# EAGLE library part LTC3105 (library James_custom)
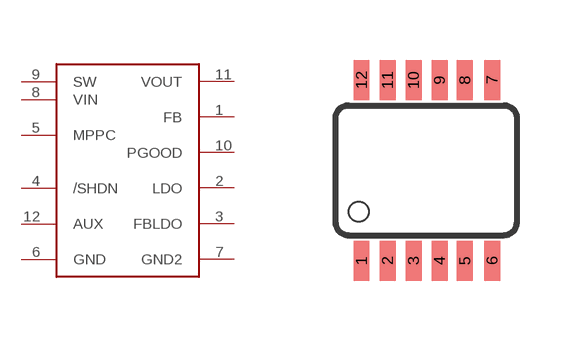
[diagram p10: symbol with the pads of MSOP12; footprint MSOP12]

Designator prefix -

## LTC3105  [MSOP12]
1  FB
2  LDO
3  FBLDO
4  /SHDN
5  MPPC
6  GND
7  GND2
8  VIN
9  SW
10  PGOOD
11  VOUT
12  AUX

## Footprint MSOP12 (pad centres in mm)
smd 0.4 x 1: 1 -1.596,-2.263; 2 -0.946,-2.263; 3 -0.296,-2.263; 4 0.354,-2.263; 5 0.989,-2.263; 6 1.669,-2.263; 7 1.669,2.262; 8 0.989,2.262; 9 0.354,2.262; 10 -0.296,2.262; 11 -0.946,2.262; 12 -1.596,2.262